# EAGLE library part NODEMCU_RISERS (library NODEMCU_RISERS)
NODEMCU RISERS
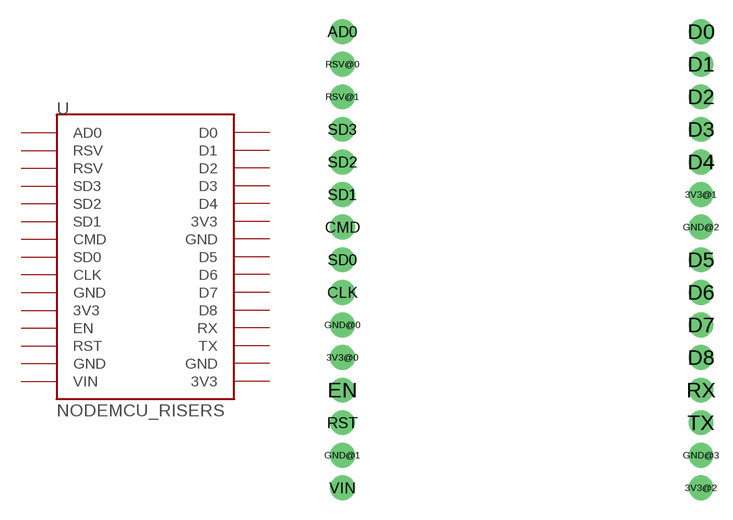
[diagram p0: symbol with the pads of NODEMCU_RISERS; footprint NODEMCU_RISERS]

Designator prefix -

## NODEMCU_RISERS  [NODEMCU_RISERS]
3V3@0  3V3
3V3@1  3V3
3V3@2  3V3
AD0  AD0
CLK  CLK
CMD  CMD
D0  D0
D1  D1
D2  D2
D3  D3
D4  D4
D5  D5
D6  D6
D7  D7
D8  D8
EN  EN
GND@0  GND
GND@1  GND
GND@2  GND
GND@3  GND
RST  RST
RSV@0  RSV
RSV@1  RSV
RX  RX
SD0  SD0
SD1  SD1
SD2  SD2
SD3  SD3
TX  TX
VIN  VIN

## Footprint NODEMCU_RISERS (pad centres in mm)
NODEMCU_RISERS
drill 0.8 pad 1.93: 3V3@0 -13.97,-7.62; 3V3@1 13.97,5.08; 3V3@2 13.97,-17.78; AD0 -13.97,17.78; CLK -13.97,-2.54; CMD -13.97,2.54; D0 13.97,17.78; D1 13.97,15.24; D2 13.97,12.7; D3 13.97,10.16; D4 13.97,7.62; D5 13.97,0; D6 13.97,-2.54; D7 13.97,-5.08; D8 13.97,-7.62; EN -13.97,-10.16; GND@0 -13.97,-5.08; GND@1 -13.97,-15.24; GND@2 13.97,2.54; GND@3 13.97,-15.24; RST -13.97,-12.7; RSV@0 -13.97,15.24; RSV@1 -13.97,12.7; RX 13.97,-10.16; SD0 -13.97,0; SD1 -13.97,5.08; SD2 -13.97,7.62; SD3 -13.97,10.16; TX 13.97,-12.7; VIN -13.97,-17.78